# EAGLE library part CY62128EV30LL-45SXIT (library SamacSys_Parts)
SRAM Chip Async Single 3V 1M-bit 128K x 8 45ns 32-Pin SOIC T/R Source: Datasheet <https://www.arrow.com/en/products/cy62128ev30ll-45sxit/cypress-semiconductor>
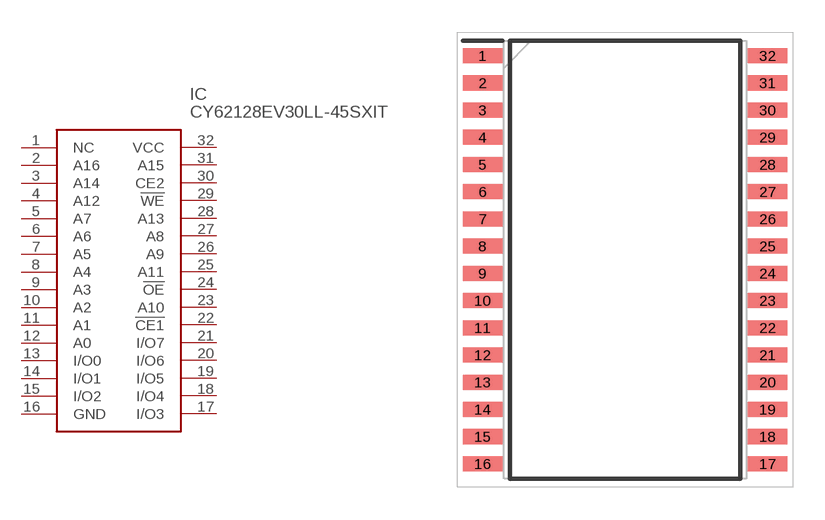
[diagram p21: symbol with the pads of SOIC127P1412X300-32N; footprint SOIC127P1412X300-32N]

Designator prefix IC

## CY62128EV30LL-45SXIT (DESCRIPTION: SRAM Chip Async Single 3V 1M-bit 128K x 8 45ns 32-Pin SOIC T/R; HEIGHT: 2.997mm; MANUFACTURER_NAME: Infineon; MANUFACTURER_PART_NUMBER: CY62128EV30LL-45SXIT; MOUSER_PART_NUMBER: 727-CY28EV30LL45SXIT; MOUSER_PRICE-STOCK: https://www.mouser.co.uk/ProductDetail/Infineon-Technologies/CY62128EV30LL-45SXIT?qs=AlG8rhiwGKIh6leWQ4%252B%2F3w%3D%3D)  [SOIC127P1412X300-32N]
1  NC  nc
2  A16  in
3  A14  in
4  A12  in
5  A7  in
6  A6  in
7  A5  in
8  A4  in
9  A3  in
10  A2  in
11  A1  in
12  A0  in
13  I/O0
14  I/O1
15  I/O2
16  GND  pwr
17  I/O3
18  I/O4
19  I/O5
20  I/O6
21  I/O7
22  !CE1  in
23  A10  in
24  !OE  in
25  A11  in
26  A9  in
27  A8  in
28  A13  in
29  !WE  in
30  CE2  in
31  A15  in
32  VCC  pwr

## Footprint SOIC127P1412X300-32N (pad centres in mm)
SOIC
smd 1.85 x 0.7: 1 -6.65,9.525; 2 -6.65,8.255; 3 -6.65,6.985; 4 -6.65,5.715; 5 -6.65,4.445; 6 -6.65,3.175; 7 -6.65,1.905; 8 -6.65,0.635; 9 -6.65,-0.635; 10 -6.65,-1.905; 11 -6.65,-3.175; 12 -6.65,-4.445; 13 -6.65,-5.715; 14 -6.65,-6.985; 15 -6.65,-8.255; 16 -6.65,-9.525; 17 6.65,-9.525; 18 6.65,-8.255; 19 6.65,-6.985; 20 6.65,-5.715; 21 6.65,-4.445; 22 6.65,-3.175; 23 6.65,-1.905; 24 6.65,-0.635; 25 6.65,0.635; 26 6.65,1.905; 27 6.65,3.175; 28 6.65,4.445; 29 6.65,5.715; 30 6.65,6.985; 31 6.65,8.255; 32 6.65,9.525